# EAGLE library part STECKER_SV60 (library 1A-meinLib)
Lumberg Rundsteckverbinder mit Schraubverschluß DIN 45 321 6 pol.
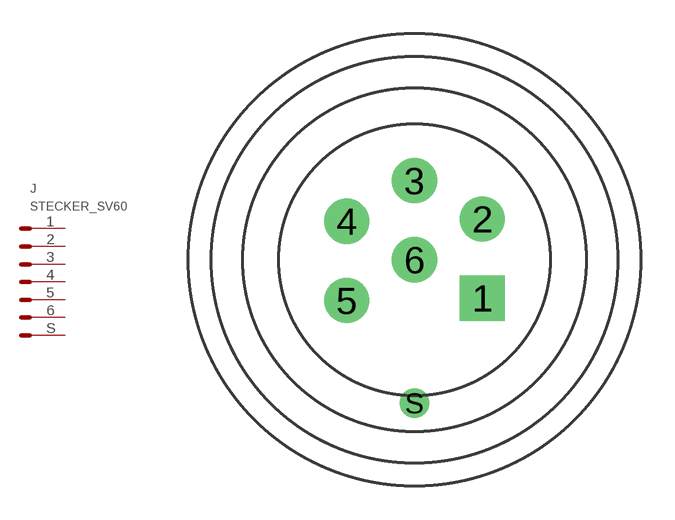
[diagram p274: symbol with the pads of STECKER_SV60; footprint STECKER_SV60]

Designator prefix J

## STECKER_SV60  [STECKER_SV60]
1  1  pas
2  2  pas
3  3  pas
4  4  pas
5  5  pas
6  6  pas
S  S  pas

## Footprint STECKER_SV60 (pad centres in mm)
drill 1 pad 2 square: 1 3,-1.7
drill 1 pad 2 round: 2 3,1.8; 3 0,3.5; 4 -3,1.7; 5 -3,-1.8; 6 0,0
drill 0.8 round: S 0,-6.35